# Altium footprint library Resistors.PcbLib: 73 footprints (part 5 of 5)
Each footprint in its own frame and in the unit in brackets; x right, y up, seen from the top. Pads: shape width x height; smd on the part's side, far side on the other; paste and mask are expansions set on the pad; w line width, h text height; cw(c..) or ccw(c..) is an arc to the next point about the centre after c.
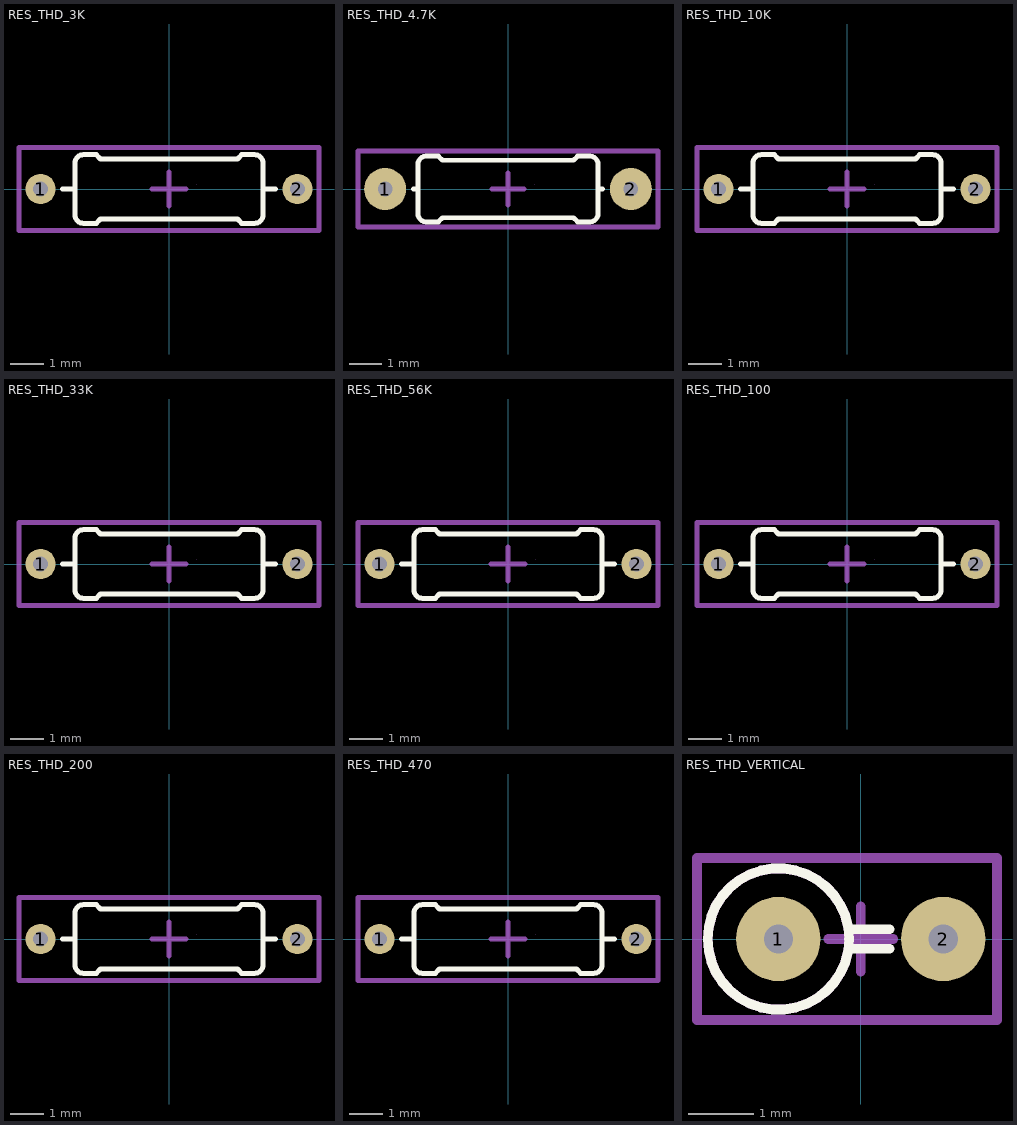
[diagram p4: the footprints below, top view; thin cyan lines are the x and y axes]

## RES_THD_3K [mm] "Resistor, Through Hole, 3k?, ±1%"
pads (2):
  round 0.9 hole 0.45: 1(-3.81,0) 2(3.81,0)
Top Overlay:
  lines w0.15: -3.16,0 -2.84,0 ; 2.84,0 3.165,0 ; -2.792,-0.764 ccw(c-2.538,-0.764) -2.538,-1.018 -2.157,-1.018 -2.03,-0.891 2.03,-0.891 2.157,-1.018 2.538,-1.018 ccw(c2.538,-0.764) 2.792,-0.764 2.792,0.764 ccw(c2.538,0.764) 2.538,1.018 2.157,1.018 2.03,0.891 -2.03,0.891 -2.157,1.018 -2.538,1.018 ccw(c-2.538,0.764) -2.792,0.764 -2.792,-0.764
Top Designator:
  text ".Designator" at -2.503,-0.266 h1.3
Mechanical 15:
  lines w0.003: 0.825,0.127 0.826,0.127
  lines w0.15: -0.5,0 0.5,0 ; 0,-0.5 0,0.5 ; -4.45,-1.225 4.45,-1.225 4.45,1.225 -4.45,1.225 -4.45,-1.225
3D body "Ðåçèñòîð Âûâîäíîé Ãîðèçîíòàëüíûé 3 êÎì.stp": height 3.51, standoff -0.4, extent -4.025,-1.167 4.025,1.167

## RES_THD_4.7K [mm] "Resistor, Through Hole, 4.7k?, ±1%"
pads (2):
  round 1.3 hole 0.45: 1(-3.81,0) 2(3.81,0)
Top Overlay:
  lines w0.15: -2.933,0 -2.84,0 ; 2.84,0 2.933,0 ; -2.792,-0.764 ccw(c-2.538,-0.764) -2.538,-1.018 -2.157,-1.018 -2.03,-0.891 2.03,-0.891 2.157,-1.018 2.538,-1.018 ccw(c2.538,-0.764) 2.792,-0.764 2.792,0.764 ccw(c2.538,0.764) 2.538,1.018 2.157,1.018 2.03,0.891 -2.03,0.891 -2.157,1.018 -2.538,1.018 ccw(c-2.538,0.764) -2.792,0.764 -2.792,-0.764
Top Designator:
  text ".Designator" at -2.503,-0.266 h1.3
Mechanical 15:
  lines w0.003: 0.825,0.127 0.826,0.127
  lines w0.15: -0.5,0 0.5,0 ; 0,-0.5 0,0.5 ; -4.65,-1.175 4.65,-1.175 4.65,1.175 -4.65,1.175 -4.65,-1.175
3D body "Ðåçèñòîð Âûâîäíîé Ãîðèçîíòàëüíûé 4.7 êÎì.stp": height 2.41, standoff -1.5, extent -4.025,-1.167 4.025,1.167

## RES_THD_10K [mm] "Resistor, Through Hole, 10k?, ±1%"
pads (2):
  round 0.9 hole 0.45: 1(-3.81,0) 2(3.81,0)
Top Overlay:
  lines w0.15: -3.16,0 -2.84,0 ; 2.84,0 3.165,0 ; -2.792,-0.764 ccw(c-2.538,-0.764) -2.538,-1.018 -2.157,-1.018 -2.03,-0.891 2.03,-0.891 2.157,-1.018 2.538,-1.018 ccw(c2.538,-0.764) 2.792,-0.764 2.792,0.764 ccw(c2.538,0.764) 2.538,1.018 2.157,1.018 2.03,0.891 -2.03,0.891 -2.157,1.018 -2.538,1.018 ccw(c-2.538,0.764) -2.792,0.764 -2.792,-0.764
Top Designator:
  text ".Designator" at -2.503,-0.266 h1.3
Mechanical 15:
  lines w0.003: 0.825,0.127 0.826,0.127
  lines w0.15: -0.5,0 0.5,0 ; 0,-0.5 0,0.5 ; -4.45,-1.225 4.45,-1.225 4.45,1.225 -4.45,1.225 -4.45,-1.225
3D body "Ðåçèñòîð Âûâîäíîé Ãîðèçîíòàëüíûé 10 êÎì.stp": height 3.51, standoff -0.4, extent -4.025,-1.167 4.025,1.167

## RES_THD_33K [mm] "Resistor, Through Hole, 33k?, ±1%"
pads (2):
  round 0.9 hole 0.45: 1(-3.81,0) 2(3.81,0)
Top Overlay:
  lines w0.15: -3.16,0 -2.84,0 ; 2.84,0 3.165,0 ; -2.792,-0.764 ccw(c-2.538,-0.764) -2.538,-1.018 -2.157,-1.018 -2.03,-0.891 2.03,-0.891 2.157,-1.018 2.538,-1.018 ccw(c2.538,-0.764) 2.792,-0.764 2.792,0.764 ccw(c2.538,0.764) 2.538,1.018 2.157,1.018 2.03,0.891 -2.03,0.891 -2.157,1.018 -2.538,1.018 ccw(c-2.538,0.764) -2.792,0.764 -2.792,-0.764
Top Designator:
  text ".Designator" at -2.503,-0.266 h1.3
Mechanical 15:
  lines w0.003: 0.825,0.127 0.826,0.127
  lines w0.15: -0.5,0 0.5,0 ; 0,-0.5 0,0.5 ; -4.45,-1.225 4.45,-1.225 4.45,1.225 -4.45,1.225 -4.45,-1.225
3D body "Ðåçèñòîð Âûâîäíîé Ãîðèçîíòàëüíûé 33 êÎì.stp": height 3.51, standoff -0.4, extent -4.025,-1.167 4.025,1.167

## RES_THD_56K [mm] "Resistor, Through Hole, 56k?, ±1%"
pads (2):
  round 0.9 hole 0.45: 1(-3.81,0) 2(3.81,0)
Top Overlay:
  lines w0.15: -3.16,0 -2.84,0 ; 2.84,0 3.165,0 ; -2.792,-0.764 ccw(c-2.538,-0.764) -2.538,-1.018 -2.157,-1.018 -2.03,-0.891 2.03,-0.891 2.157,-1.018 2.538,-1.018 ccw(c2.538,-0.764) 2.792,-0.764 2.792,0.764 ccw(c2.538,0.764) 2.538,1.018 2.157,1.018 2.03,0.891 -2.03,0.891 -2.157,1.018 -2.538,1.018 ccw(c-2.538,0.764) -2.792,0.764 -2.792,-0.764
Top Designator:
  text ".Designator" at -2.503,-0.266 h1.3
Mechanical 15:
  lines w0.003: 0.825,0.127 0.826,0.127
  lines w0.15: -0.5,0 0.5,0 ; 0,-0.5 0,0.5 ; -4.45,-1.225 4.45,-1.225 4.45,1.225 -4.45,1.225 -4.45,-1.225
3D body "Ðåçèñòîð Âûâîäíîé Ãîðèçîíòàëüíûé 56 êÎì.stp": height 3.51, standoff -0.4, extent -4.025,-1.167 4.025,1.167

## RES_THD_100 [mm] "Resistor, Through Hole, 100?, ±1%"
pads (2):
  round 0.9 hole 0.45: 1(-3.81,0) 2(3.81,0)
Top Overlay:
  lines w0.15: -3.16,0 -2.84,0 ; 2.84,0 3.165,0 ; -2.792,-0.764 ccw(c-2.538,-0.764) -2.538,-1.018 -2.157,-1.018 -2.03,-0.891 2.03,-0.891 2.157,-1.018 2.538,-1.018 ccw(c2.538,-0.764) 2.792,-0.764 2.792,0.764 ccw(c2.538,0.764) 2.538,1.018 2.157,1.018 2.03,0.891 -2.03,0.891 -2.157,1.018 -2.538,1.018 ccw(c-2.538,0.764) -2.792,0.764 -2.792,-0.764
Top Designator:
  text ".Designator" at -2.503,-0.266 h1.3
Mechanical 15:
  lines w0.003: 0.825,0.127 0.826,0.127
  lines w0.15: -0.5,0 0.5,0 ; 0,-0.5 0,0.5 ; -4.45,-1.225 -4.45,1.225 4.45,1.225 4.45,-1.225 -4.45,-1.225
3D body "Ðåçèñòîð Âûâîäíîé Ãîðèçîíòàëüíûé 100 Îì.stp": height 3.51, standoff -0.4, extent -4.025,-1.167 4.025,1.167

## RES_THD_200 [mm] "Resistor, Through Hole, 200?, ±1%"
pads (2):
  round 0.9 hole 0.45: 1(-3.81,0) 2(3.81,0)
Top Overlay:
  lines w0.15: -3.16,0 -2.84,0 ; 2.84,0 3.165,0 ; -2.792,-0.764 ccw(c-2.538,-0.764) -2.538,-1.018 -2.157,-1.018 -2.03,-0.891 2.03,-0.891 2.157,-1.018 2.538,-1.018 ccw(c2.538,-0.764) 2.792,-0.764 2.792,0.764 ccw(c2.538,0.764) 2.538,1.018 2.157,1.018 2.03,0.891 -2.03,0.891 -2.157,1.018 -2.538,1.018 ccw(c-2.538,0.764) -2.792,0.764 -2.792,-0.764
Top Designator:
  text ".Designator" at -2.503,-0.266 h1.3
Mechanical 15:
  lines w0.003: 0.825,0.127 0.826,0.127
  lines w0.15: -0.5,0 0.5,0 ; 0,-0.5 0,0.5 ; -4.45,-1.225 4.45,-1.225 4.45,1.225 -4.45,1.225 -4.45,-1.225
3D body "Ðåçèñòîð Âûâîäíîé Ãîðèçîíòàëüíûé 200 Îì.stp": height 3.51, standoff -0.4, extent -4.025,-1.167 4.025,1.167

## RES_THD_470 [mm] "Resistor, Through Hole, 470?, ±1%"
pads (2):
  round 0.9 hole 0.45: 1(-3.81,0) 2(3.81,0)
Top Overlay:
  lines w0.15: -3.16,0 -2.84,0 ; 2.84,0 3.165,0 ; -2.792,-0.764 ccw(c-2.538,-0.764) -2.538,-1.018 -2.157,-1.018 -2.03,-0.891 2.03,-0.891 2.157,-1.018 2.538,-1.018 ccw(c2.538,-0.764) 2.792,-0.764 2.792,0.764 ccw(c2.538,0.764) 2.538,1.018 2.157,1.018 2.03,0.891 -2.03,0.891 -2.157,1.018 -2.538,1.018 ccw(c-2.538,0.764) -2.792,0.764 -2.792,-0.764
Top Designator:
  text ".Designator" at -2.503,-0.266 h1.3
Mechanical 15:
  lines w0.003: 0.825,0.127 0.826,0.127
  lines w0.15: -0.5,0 0.5,0 ; 0,-0.5 0,0.5 ; -4.45,-1.225 4.45,-1.225 4.45,1.225 -4.45,1.225 -4.45,-1.225
3D body "Ðåçèñòîð Âûâîäíîé Ãîðèçîíòàëüíûé 470 Îì.stp": height 3.51, standoff -0.4, extent -4.025,-1.167 4.025,1.167

## RES_THD_VERTICAL [mm] "Resistor, Through Hole, Vertical Mount"
pads (2):
  round 1.3 hole 0.45: 1(-1.27,0) 2(1.27,0)
Top Overlay:
  circle w0.15: c-1.27,0 r1.09
  lines w0.15: -0.175,-0.15 0.445,-0.15 ; -0.175,0.15 0.445,0.15
Top Designator:
  text ".Designator" at -2.503,-0.266 h1.3
Mechanical 13:
  circle w0.15: c-1.27,0 r1.09
Mechanical 15:
  lines w0.15: -0.5,0 0.5,0 ; 0,-0.5 0,0.5 ; -2.525,-1.25 2.1,-1.25 2.1,1.25 -2.525,1.25 -2.525,-1.25
3D body "Ðåçèñòîð Âûâîäíîé Âåðòèêàëüíûé xxx.stp": height 7.79, standoff -1.9, extent -2.438,-1.168 1.485,1.168